# EAGLE library part BALUN_MINICIR (library SUCHAI)
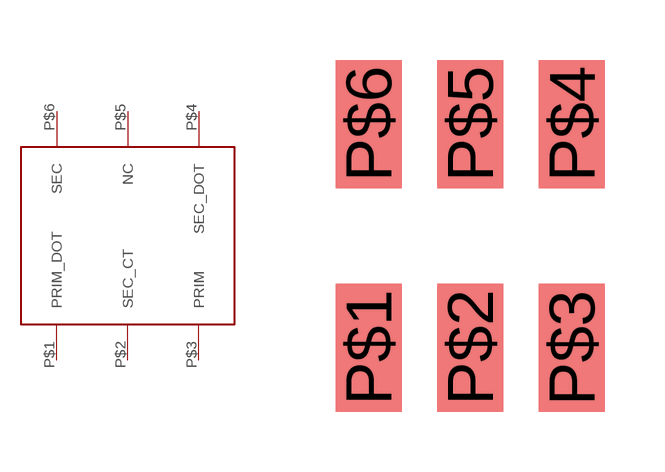
[diagram p9: symbol with the pads of ADT1.5-1; footprint ADT1.5-1]

Designator prefix -

## BALUN_MINICIR  [ADT1.5-1]
P$1  PRIM_DOT
P$2  SEC_CT
P$3  PRIM
P$4  SEC_DOT
P$5  NC
P$6  SEC

## Footprint ADT1.5-1 (pad centres in mm)
Pad pattern for Minicircuits's ADT1.5-1 balun/transformer
smd 1.65 x 3.2: P$1 0,0; P$2 2.54,0; P$3 5.08,-0.01; P$4 5.08,5.588; P$5 2.54,5.588; P$6 0,5.588